# EAGLE library part ADAFRUIT-MICROSD (library ADAFRUIT-MICROSD)
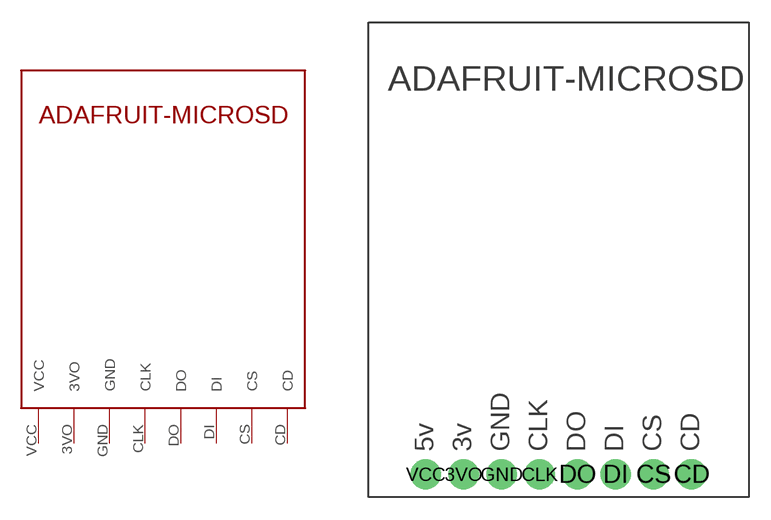
[diagram p0: symbol with the pads of ADAFRUIT-MICROSD; footprint ADAFRUIT-MICROSD]

Designator prefix -

## ADAFRUIT-MICROSD  [ADAFRUIT-MICROSD]
3VO  3VO
CD  CD
CLK  CLK
CS  CS
DI  DI
DO  DO
GND  GND
VCC  VCC

## Footprint ADAFRUIT-MICROSD (pad centres in mm)
drill 1.016 pad 2.032: 3VO 6.35,1.524; CD 21.59,1.524; CLK 11.43,1.524; CS 19.05,1.524; DI 16.51,1.524; DO 13.97,1.524; GND 8.89,1.524; VCC 3.81,1.524